# EAGLE library part ANALOG_DEVICES_INC_AD8138SRMZ-EP-R7 (library Upverter Library)
ADC Driver IC Data Acquisition 8-MSOP
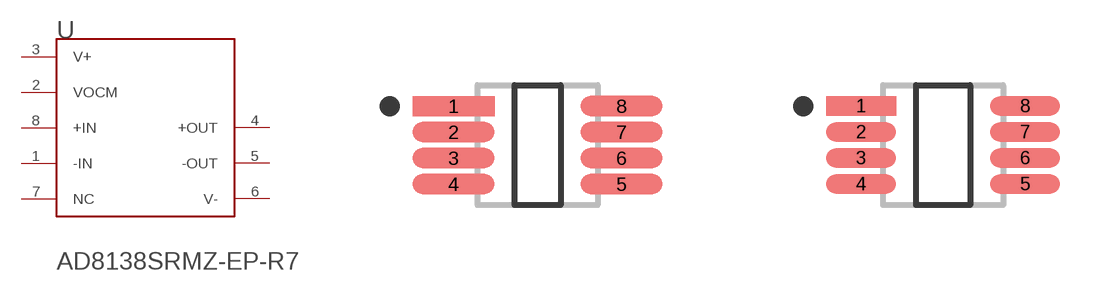
[diagram p0: symbol with the pads of ANALOG_DEVICES_INC_AD8138SRMZ-EP-R7_0; footprints ANALOG_DEVICES_INC_AD8138SRMZ-EP-R7_0, ANALOG_DEVICES_INC_AD8138SRMZ-EP-R7_1]

Designator prefix U

## ANALOG_DEVICES_INC_AD8138SRMZ-EP-R7ANALOG_DEVICES_INC_AD8138SRMZ-EP-R7_0_0 (MF: Analog Devices Inc; MPN: AD8138SRMZ-EP-R7; automotive: No; bandwidth: 250MHz; centroid_not_specified: No; datasheet: https://www.analog.com/media/en/technical-documentation/data-sheets/AD8138.pdf; device_class_L1: Integrated Circuits (ICs); device_class_L2: Linear ICs; device_class_L3: Amplifiers - Op Amps; digikey_description: IC ADC DRIVER 8MSOP; digikey_part_number: AD8138SRMZ-EP-R7CT-ND; footprint_parameters_0: {"fp_type":"TSSOP2","params":{"N":{"nom":8,"long name":"Number of leads","min":null,"max":null,"short name":"N","type":"count"},"A":{"nom":false,"long name":"Height","min":false,"max":1100000,"short name":"A","type":"measurement"},"A1":{"nom":100000,"long name":"Package clearance","min":50000,"max":150000,"short name":"A1","type":"measurement"},"A2":{"nom":850000,"long name":"Package height","min":750000,"max":950000,"short name":"A2","type":"measurement"},"D":{"nom":3000000,"long name":"Package length","min":2800000,"max":3200000,"short name":"D","type":"measurement"},"E":{"nom":4900000,"long name":"Width /w leads","min":4650000,"max":5150000,"short name":"E","type":"measurement"},"E1":{"nom":3000000,"long name":"Package width","min":2800000,"max":3200000,"short name":"E1","type":"measurement"},"B":{"nom":325000,"long name":"Lead width","min":250000,"max":400000,"short name":"B","type":"measurement"},"C":{"nom":160000,"long name":"Lead thickness","min":90000,"max":230000,"short name":"C","type":"measurement"},"L":{"nom":550000,"long name":"Lead foot length","min":400000,"max":800000,"short name":"L","type":"measurement"},"e":{"nom":650000,"long name":"Lead pitch","min":null,"max":null,"short name":"e","type":"measurement"},"PHI":{"nom":3000000,"long name":"Lead angle","min":0,"max":6000000,"short name":"PHI","type":"measurement"},"HT":{"default":"No","long name":"Thermal pad","type":"multichoiceparent","short name":"HT","children":[]},"offset x":{"nom":0,"long name":"X Center offset","min":null,"max":null,"short name":"offset x","type":"measurement"},"offset y":{"nom":0,"long name":"Y Center offset","min":null,"max":null,"short name":"offset y","type":"measurement"},"LS":{"default":"Rounded rectangle","long name":"Land shape","type":"multichoice","short name":"LS"},"LS1":{"default":"Rectangle","long name":"Land shape (Pin 1)","type":"multichoice","short name":"LS1"},"solder toe":{"nom":550000,"long name":"Solder fillet (toe)","min":null,"max":null,"short name":"solder toe","type":"fixedmeasurement"},"solder heel":{"nom":450000,"long name":"Solder fillet (heel)","min":null,"max":null,"short name":"solder heel","type":"fixedmeasurement"},"solder side":{"nom":50000,"long name":"Solder fillet (side)","min":null,"max":null,"short name":"solder side","type":"fixedmeasurement"},"courtyard":{"nom":500000,"long name":"Courtyard","min":null,"max":null,"short name":"courtyard","type":"fixedmeasurement"},"SF":{"default":"A (> 0.625mm pitch)","long name":"Packing level","type":"multichoiceparent","short name":"SF","help":"http://support.upverter.com/customer/portal/articles/978783-what-is-a-footprint-packing-level","children":["solder toe","solder heel","solder side","courtyard"]}}}; footprint_parameters_1: {"fp_type":"TSSOP2","params":{"N":{"nom":8,"long name":"Number of leads","min":null,"max":null,"short name":"N","type":"count"},"A":{"nom":false,"long name":"Height","min":false,"max":1100000,"short name":"A","type":"measurement"},"A1":{"nom":100000,"long name":"Package clearance","min":50000,"max":150000,"short name":"A1","type":"measurement"},"A2":{"nom":850000,"long name":"Package height","min":750000,"max":950000,"short name":"A2","type":"measurement"},"D":{"nom":3000000,"long name":"Package length","min":2800000,"max":3200000,"short name":"D","type":"measurement"},"E":{"nom":4900000,"long name":"Width /w leads","min":4650000,"max":5150000,"short name":"E","type":"measurement"},"E1":{"nom":3000000,"long name":"Package width","min":2800000,"max":3200000,"short name":"E1","type":"measurement"},"B":{"nom":325000,"long name":"Lead width","min":250000,"max":400000,"short name":"B","type":"measurement"},"C":{"nom":160000,"long name":"Lead thickness","min":90000,"max":230000,"short name":"C","type":"measurement"},"L":{"nom":550000,"long name":"Lead foot length","min":400000,"max":800000,"short name":"L","type":"measurement"},"e":{"nom":650000,"long name":"Lead pitch","min":null,"max":null,"short name":"e","type":"measurement"},"PHI":{"nom":3000000,"long name":"Lead angle","min":0,"max":6000000,"short name":"PHI","type":"measurement"},"HT":{"default":"No","long name":"Thermal pad","type":"multichoiceparent","short name":"HT","children":[]},"offset x":{"nom":0,"long name":"X Center offset","min":null,"max":null,"short name":"offset x","type":"measurement"},"offset y":{"nom":0,"long name":"Y Center offset","min":null,"max":null,"short name":"offset y","type":"measurement"},"LS":{"default":"Rounded rectangle","long name":"Land shape","type":"multichoice","short name":"LS"},"LS1":{"default":"Rectangle","long name":"Land shape (Pin 1)","type":"multichoice","short name":"LS1"},"solder toe":{"nom":350000,"long name":"Solder fillet (toe)","min":null,"max":null,"short name":"solder toe","type":"fixedmeasurement"},"solder heel":{"nom":350000,"long name":"Solder fillet (heel)","min":null,"max":null,"short name":"solder heel","type":"fixedmeasurement"},"solder side":{"nom":30000,"long name":"Solder fillet (side)","min":null,"max":null,"short name":"solder side","type":"fixedmeasurement"},"courtyard":{"nom":250000,"long name":"Courtyard","min":null,"max":null,"short name":"courtyard","type":"fixedmeasurement"},"SF":{"default":"B (> 0.625mm pitch)","long name":"Packing level","type":"multichoiceparent","short name":"SF","help":"http://support.upverter.com/customer/portal/articles/978783-what-is-a-footprint-packing-level","children":["solder toe","solder heel","solder side","courtyard"]}}}; footprint_parameters_2: {"fp_type":"TSSOP2","params":{"N":{"nom":8,"long name":"Number of leads","min":null,"max":null,"short name":"N","type":"count"},"A":{"nom":false,"long name":"Height","min":false,"max":1100000,"short name":"A","type":"measurement"},"A1":{"nom":100000,"long name":"Package clearance","min":50000,"max":150000,"short name":"A1","type":"measurement"},"A2":{"nom":850000,"long name":"Package height","min":750000,"max":950000,"short name":"A2","type":"measurement"},"D":{"nom":3000000,"long name":"Package length","min":2800000,"max":3200000,"short name":"D","type":"measurement"},"E":{"nom":4900000,"long name":"Width /w leads","min":4650000,"max":5150000,"short name":"E","type":"measurement"},"E1":{"nom":3000000,"long name":"Package width","min":2800000,"max":3200000,"short name":"E1","type":"measurement"},"B":{"nom":325000,"long name":"Lead width","min":250000,"max":400000,"short name":"B","type":"measurement"},"C":{"nom":160000,"long name":"Lead thickness","min":90000,"max":230000,"short name":"C","type":"measurement"},"L":{"nom":550000,"long name":"Lead foot length","min":400000,"max":800000,"short name":"L","type":"measurement"},"e":{"nom":650000,"long name":"Lead pitch","min":null,"max":null,"short name":"e","type":"measurement"},"PHI":{"nom":3000000,"long name":"Lead angle","min":0,"max":6000000,"short name":"PHI","type":"measurement"},"HT":{"default":"No","long name":"Thermal pad","type":"multichoiceparent","short name":"HT","children":[]},"offset x":{"nom":0,"long name":"X Center offset","min":null,"max":null,"short name":"offset x","type":"measurement"},"offset y":{"nom":0,"long name":"Y Center offset","min":null,"max":null,"short name":"offset y","type":"measurement"},"LS":{"default":"Rounded rectangle","long name":"Land shape","type":"multichoice","short name":"LS"},"LS1":{"default":"Rectangle","long name":"Land shape (Pin 1)","type":"multichoice","short name":"LS1"},"solder toe":{"nom":150000,"long name":"Solder fillet (toe)","min":null,"max":null,"short name":"solder toe","type":"fixedmeasurement"},"solder heel":{"nom":250000,"long name":"Solder fillet (heel)","min":null,"max":null,"short name":"solder heel","type":"fixedmeasurement"},"solder side":{"nom":10000,"long name":"Solder fillet (side)","min":null,"max":null,"short name":"solder side","type":"fixedmeasurement"},"courtyard":{"nom":100000,"long name":"Courtyard","min":null,"max":null,"short name":"courtyard","type":"fixedmeasurement"},"SF":{"default":"C (> 0.625mm pitch)","long name":"Packing level","type":"multichoiceparent","short name":"SF","help":"http://support.upverter.com/customer/portal/articles/978783-what-is-a-footprint-packing-level","children":["solder toe","solder heel","solder side","courtyard"]}}}; footprint_url: https://www.analog.com/media/en/package-pcb-resources/package/pkg_pdf/msoprm/rm_8.pdf; footprint_variant_name_0: IPC_A; footprint_variant_name_1: IPC_B; footprint_variant_name_2: IPC_C; height: 1.1mm; input_bias_current: 3.5uA; input_offset_voltage: 1mV; lead_free: Yes; max_junction_temp: +150°C; max_supply_voltage: 11V; mfg_package_ident: RM-8; mfg_package_ident_component_id: b5f9d8ac265ceba8; mfg_package_ident_date: 10/2009; mfg_package_ident_rev: B; min_supply_voltage: 2.7V; mouser_description: Differential Amplifiers IC Lo-Distortion ADC; mouser_part_number: 584-AD8138SRMZ-EP-R7; nominal_supply_current: 20mA; number_of_channels: 1; output_current_per_channel: 95mA; package: MSOP8; prefix: U; response_time: 16ns; rohs: Yes; standoff_height: 0.05mm; temperature_range_high: +85°C; temperature_range_low: -40°C; verification_version: 0.0.0.3)  [ANALOG_DEVICES_INC_AD8138SRMZ-EP-R7_0]
1  -IN  hiz
2  VOCM  pwr
3  V+  pwr
4  +OUT  pas
5  -OUT  pas
6  V-  pwr
7  NC  pas
8  +IN  hiz

## ANALOG_DEVICES_INC_AD8138SRMZ-EP-R7ANALOG_DEVICES_INC_AD8138SRMZ-EP-R7_0_1 (MF: Analog Devices Inc; MPN: AD8138SRMZ-EP-R7; automotive: No; bandwidth: 250MHz; centroid_not_specified: No; datasheet: https://www.analog.com/media/en/technical-documentation/data-sheets/AD8138.pdf; device_class_L1: Integrated Circuits (ICs); device_class_L2: Linear ICs; device_class_L3: Amplifiers - Op Amps; digikey_description: IC ADC DRIVER 8MSOP; digikey_part_number: AD8138SRMZ-EP-R7CT-ND; footprint_parameters_0: {"fp_type":"TSSOP2","params":{"N":{"nom":8,"long name":"Number of leads","min":null,"max":null,"short name":"N","type":"count"},"A":{"nom":false,"long name":"Height","min":false,"max":1100000,"short name":"A","type":"measurement"},"A1":{"nom":100000,"long name":"Package clearance","min":50000,"max":150000,"short name":"A1","type":"measurement"},"A2":{"nom":850000,"long name":"Package height","min":750000,"max":950000,"short name":"A2","type":"measurement"},"D":{"nom":3000000,"long name":"Package length","min":2800000,"max":3200000,"short name":"D","type":"measurement"},"E":{"nom":4900000,"long name":"Width /w leads","min":4650000,"max":5150000,"short name":"E","type":"measurement"},"E1":{"nom":3000000,"long name":"Package width","min":2800000,"max":3200000,"short name":"E1","type":"measurement"},"B":{"nom":325000,"long name":"Lead width","min":250000,"max":400000,"short name":"B","type":"measurement"},"C":{"nom":160000,"long name":"Lead thickness","min":90000,"max":230000,"short name":"C","type":"measurement"},"L":{"nom":550000,"long name":"Lead foot length","min":400000,"max":800000,"short name":"L","type":"measurement"},"e":{"nom":650000,"long name":"Lead pitch","min":null,"max":null,"short name":"e","type":"measurement"},"PHI":{"nom":3000000,"long name":"Lead angle","min":0,"max":6000000,"short name":"PHI","type":"measurement"},"HT":{"default":"No","long name":"Thermal pad","type":"multichoiceparent","short name":"HT","children":[]},"offset x":{"nom":0,"long name":"X Center offset","min":null,"max":null,"short name":"offset x","type":"measurement"},"offset y":{"nom":0,"long name":"Y Center offset","min":null,"max":null,"short name":"offset y","type":"measurement"},"LS":{"default":"Rounded rectangle","long name":"Land shape","type":"multichoice","short name":"LS"},"LS1":{"default":"Rectangle","long name":"Land shape (Pin 1)","type":"multichoice","short name":"LS1"},"solder toe":{"nom":550000,"long name":"Solder fillet (toe)","min":null,"max":null,"short name":"solder toe","type":"fixedmeasurement"},"solder heel":{"nom":450000,"long name":"Solder fillet (heel)","min":null,"max":null,"short name":"solder heel","type":"fixedmeasurement"},"solder side":{"nom":50000,"long name":"Solder fillet (side)","min":null,"max":null,"short name":"solder side","type":"fixedmeasurement"},"courtyard":{"nom":500000,"long name":"Courtyard","min":null,"max":null,"short name":"courtyard","type":"fixedmeasurement"},"SF":{"default":"A (> 0.625mm pitch)","long name":"Packing level","type":"multichoiceparent","short name":"SF","help":"http://support.upverter.com/customer/portal/articles/978783-what-is-a-footprint-packing-level","children":["solder toe","solder heel","solder side","courtyard"]}}}; footprint_parameters_1: {"fp_type":"TSSOP2","params":{"N":{"nom":8,"long name":"Number of leads","min":null,"max":null,"short name":"N","type":"count"},"A":{"nom":false,"long name":"Height","min":false,"max":1100000,"short name":"A","type":"measurement"},"A1":{"nom":100000,"long name":"Package clearance","min":50000,"max":150000,"short name":"A1","type":"measurement"},"A2":{"nom":850000,"long name":"Package height","min":750000,"max":950000,"short name":"A2","type":"measurement"},"D":{"nom":3000000,"long name":"Package length","min":2800000,"max":3200000,"short name":"D","type":"measurement"},"E":{"nom":4900000,"long name":"Width /w leads","min":4650000,"max":5150000,"short name":"E","type":"measurement"},"E1":{"nom":3000000,"long name":"Package width","min":2800000,"max":3200000,"short name":"E1","type":"measurement"},"B":{"nom":325000,"long name":"Lead width","min":250000,"max":400000,"short name":"B","type":"measurement"},"C":{"nom":160000,"long name":"Lead thickness","min":90000,"max":230000,"short name":"C","type":"measurement"},"L":{"nom":550000,"long name":"Lead foot length","min":400000,"max":800000,"short name":"L","type":"measurement"},"e":{"nom":650000,"long name":"Lead pitch","min":null,"max":null,"short name":"e","type":"measurement"},"PHI":{"nom":3000000,"long name":"Lead angle","min":0,"max":6000000,"short name":"PHI","type":"measurement"},"HT":{"default":"No","long name":"Thermal pad","type":"multichoiceparent","short name":"HT","children":[]},"offset x":{"nom":0,"long name":"X Center offset","min":null,"max":null,"short name":"offset x","type":"measurement"},"offset y":{"nom":0,"long name":"Y Center offset","min":null,"max":null,"short name":"offset y","type":"measurement"},"LS":{"default":"Rounded rectangle","long name":"Land shape","type":"multichoice","short name":"LS"},"LS1":{"default":"Rectangle","long name":"Land shape (Pin 1)","type":"multichoice","short name":"LS1"},"solder toe":{"nom":350000,"long name":"Solder fillet (toe)","min":null,"max":null,"short name":"solder toe","type":"fixedmeasurement"},"solder heel":{"nom":350000,"long name":"Solder fillet (heel)","min":null,"max":null,"short name":"solder heel","type":"fixedmeasurement"},"solder side":{"nom":30000,"long name":"Solder fillet (side)","min":null,"max":null,"short name":"solder side","type":"fixedmeasurement"},"courtyard":{"nom":250000,"long name":"Courtyard","min":null,"max":null,"short name":"courtyard","type":"fixedmeasurement"},"SF":{"default":"B (> 0.625mm pitch)","long name":"Packing level","type":"multichoiceparent","short name":"SF","help":"http://support.upverter.com/customer/portal/articles/978783-what-is-a-footprint-packing-level","children":["solder toe","solder heel","solder side","courtyard"]}}}; footprint_parameters_2: {"fp_type":"TSSOP2","params":{"N":{"nom":8,"long name":"Number of leads","min":null,"max":null,"short name":"N","type":"count"},"A":{"nom":false,"long name":"Height","min":false,"max":1100000,"short name":"A","type":"measurement"},"A1":{"nom":100000,"long name":"Package clearance","min":50000,"max":150000,"short name":"A1","type":"measurement"},"A2":{"nom":850000,"long name":"Package height","min":750000,"max":950000,"short name":"A2","type":"measurement"},"D":{"nom":3000000,"long name":"Package length","min":2800000,"max":3200000,"short name":"D","type":"measurement"},"E":{"nom":4900000,"long name":"Width /w leads","min":4650000,"max":5150000,"short name":"E","type":"measurement"},"E1":{"nom":3000000,"long name":"Package width","min":2800000,"max":3200000,"short name":"E1","type":"measurement"},"B":{"nom":325000,"long name":"Lead width","min":250000,"max":400000,"short name":"B","type":"measurement"},"C":{"nom":160000,"long name":"Lead thickness","min":90000,"max":230000,"short name":"C","type":"measurement"},"L":{"nom":550000,"long name":"Lead foot length","min":400000,"max":800000,"short name":"L","type":"measurement"},"e":{"nom":650000,"long name":"Lead pitch","min":null,"max":null,"short name":"e","type":"measurement"},"PHI":{"nom":3000000,"long name":"Lead angle","min":0,"max":6000000,"short name":"PHI","type":"measurement"},"HT":{"default":"No","long name":"Thermal pad","type":"multichoiceparent","short name":"HT","children":[]},"offset x":{"nom":0,"long name":"X Center offset","min":null,"max":null,"short name":"offset x","type":"measurement"},"offset y":{"nom":0,"long name":"Y Center offset","min":null,"max":null,"short name":"offset y","type":"measurement"},"LS":{"default":"Rounded rectangle","long name":"Land shape","type":"multichoice","short name":"LS"},"LS1":{"default":"Rectangle","long name":"Land shape (Pin 1)","type":"multichoice","short name":"LS1"},"solder toe":{"nom":150000,"long name":"Solder fillet (toe)","min":null,"max":null,"short name":"solder toe","type":"fixedmeasurement"},"solder heel":{"nom":250000,"long name":"Solder fillet (heel)","min":null,"max":null,"short name":"solder heel","type":"fixedmeasurement"},"solder side":{"nom":10000,"long name":"Solder fillet (side)","min":null,"max":null,"short name":"solder side","type":"fixedmeasurement"},"courtyard":{"nom":100000,"long name":"Courtyard","min":null,"max":null,"short name":"courtyard","type":"fixedmeasurement"},"SF":{"default":"C (> 0.625mm pitch)","long name":"Packing level","type":"multichoiceparent","short name":"SF","help":"http://support.upverter.com/customer/portal/articles/978783-what-is-a-footprint-packing-level","children":["solder toe","solder heel","solder side","courtyard"]}}}; footprint_url: https://www.analog.com/media/en/package-pcb-resources/package/pkg_pdf/msoprm/rm_8.pdf; footprint_variant_name_0: IPC_A; footprint_variant_name_1: IPC_B; footprint_variant_name_2: IPC_C; height: 1.1mm; input_bias_current: 3.5uA; input_offset_voltage: 1mV; lead_free: Yes; max_junction_temp: +150°C; max_supply_voltage: 11V; mfg_package_ident: RM-8; mfg_package_ident_component_id: b5f9d8ac265ceba8; mfg_package_ident_date: 10/2009; mfg_package_ident_rev: B; min_supply_voltage: 2.7V; mouser_description: Differential Amplifiers IC Lo-Distortion ADC; mouser_part_number: 584-AD8138SRMZ-EP-R7; nominal_supply_current: 20mA; number_of_channels: 1; output_current_per_channel: 95mA; package: MSOP8; prefix: U; response_time: 16ns; rohs: Yes; standoff_height: 0.05mm; temperature_range_high: +85°C; temperature_range_low: -40°C; verification_version: 0.0.0.3)  [ANALOG_DEVICES_INC_AD8138SRMZ-EP-R7_1]
Pads as for ANALOG_DEVICES_INC_AD8138SRMZ-EP-R7_0

## ANALOG_DEVICES_INC_AD8138SRMZ-EP-R7ANALOG_DEVICES_INC_AD8138SRMZ-EP-R7_0_2 (MF: Analog Devices Inc; MPN: AD8138SRMZ-EP-R7; automotive: No; bandwidth: 250MHz; centroid_not_specified: No; datasheet: https://www.analog.com/media/en/technical-documentation/data-sheets/AD8138.pdf; device_class_L1: Integrated Circuits (ICs); device_class_L2: Linear ICs; device_class_L3: Amplifiers - Op Amps; digikey_description: IC ADC DRIVER 8MSOP; digikey_part_number: AD8138SRMZ-EP-R7CT-ND; footprint_parameters_0: {"fp_type":"TSSOP2","params":{"N":{"nom":8,"long name":"Number of leads","min":null,"max":null,"short name":"N","type":"count"},"A":{"nom":false,"long name":"Height","min":false,"max":1100000,"short name":"A","type":"measurement"},"A1":{"nom":100000,"long name":"Package clearance","min":50000,"max":150000,"short name":"A1","type":"measurement"},"A2":{"nom":850000,"long name":"Package height","min":750000,"max":950000,"short name":"A2","type":"measurement"},"D":{"nom":3000000,"long name":"Package length","min":2800000,"max":3200000,"short name":"D","type":"measurement"},"E":{"nom":4900000,"long name":"Width /w leads","min":4650000,"max":5150000,"short name":"E","type":"measurement"},"E1":{"nom":3000000,"long name":"Package width","min":2800000,"max":3200000,"short name":"E1","type":"measurement"},"B":{"nom":325000,"long name":"Lead width","min":250000,"max":400000,"short name":"B","type":"measurement"},"C":{"nom":160000,"long name":"Lead thickness","min":90000,"max":230000,"short name":"C","type":"measurement"},"L":{"nom":550000,"long name":"Lead foot length","min":400000,"max":800000,"short name":"L","type":"measurement"},"e":{"nom":650000,"long name":"Lead pitch","min":null,"max":null,"short name":"e","type":"measurement"},"PHI":{"nom":3000000,"long name":"Lead angle","min":0,"max":6000000,"short name":"PHI","type":"measurement"},"HT":{"default":"No","long name":"Thermal pad","type":"multichoiceparent","short name":"HT","children":[]},"offset x":{"nom":0,"long name":"X Center offset","min":null,"max":null,"short name":"offset x","type":"measurement"},"offset y":{"nom":0,"long name":"Y Center offset","min":null,"max":null,"short name":"offset y","type":"measurement"},"LS":{"default":"Rounded rectangle","long name":"Land shape","type":"multichoice","short name":"LS"},"LS1":{"default":"Rectangle","long name":"Land shape (Pin 1)","type":"multichoice","short name":"LS1"},"solder toe":{"nom":550000,"long name":"Solder fillet (toe)","min":null,"max":null,"short name":"solder toe","type":"fixedmeasurement"},"solder heel":{"nom":450000,"long name":"Solder fillet (heel)","min":null,"max":null,"short name":"solder heel","type":"fixedmeasurement"},"solder side":{"nom":50000,"long name":"Solder fillet (side)","min":null,"max":null,"short name":"solder side","type":"fixedmeasurement"},"courtyard":{"nom":500000,"long name":"Courtyard","min":null,"max":null,"short name":"courtyard","type":"fixedmeasurement"},"SF":{"default":"A (> 0.625mm pitch)","long name":"Packing level","type":"multichoiceparent","short name":"SF","help":"http://support.upverter.com/customer/portal/articles/978783-what-is-a-footprint-packing-level","children":["solder toe","solder heel","solder side","courtyard"]}}}; footprint_parameters_1: {"fp_type":"TSSOP2","params":{"N":{"nom":8,"long name":"Number of leads","min":null,"max":null,"short name":"N","type":"count"},"A":{"nom":false,"long name":"Height","min":false,"max":1100000,"short name":"A","type":"measurement"},"A1":{"nom":100000,"long name":"Package clearance","min":50000,"max":150000,"short name":"A1","type":"measurement"},"A2":{"nom":850000,"long name":"Package height","min":750000,"max":950000,"short name":"A2","type":"measurement"},"D":{"nom":3000000,"long name":"Package length","min":2800000,"max":3200000,"short name":"D","type":"measurement"},"E":{"nom":4900000,"long name":"Width /w leads","min":4650000,"max":5150000,"short name":"E","type":"measurement"},"E1":{"nom":3000000,"long name":"Package width","min":2800000,"max":3200000,"short name":"E1","type":"measurement"},"B":{"nom":325000,"long name":"Lead width","min":250000,"max":400000,"short name":"B","type":"measurement"},"C":{"nom":160000,"long name":"Lead thickness","min":90000,"max":230000,"short name":"C","type":"measurement"},"L":{"nom":550000,"long name":"Lead foot length","min":400000,"max":800000,"short name":"L","type":"measurement"},"e":{"nom":650000,"long name":"Lead pitch","min":null,"max":null,"short name":"e","type":"measurement"},"PHI":{"nom":3000000,"long name":"Lead angle","min":0,"max":6000000,"short name":"PHI","type":"measurement"},"HT":{"default":"No","long name":"Thermal pad","type":"multichoiceparent","short name":"HT","children":[]},"offset x":{"nom":0,"long name":"X Center offset","min":null,"max":null,"short name":"offset x","type":"measurement"},"offset y":{"nom":0,"long name":"Y Center offset","min":null,"max":null,"short name":"offset y","type":"measurement"},"LS":{"default":"Rounded rectangle","long name":"Land shape","type":"multichoice","short name":"LS"},"LS1":{"default":"Rectangle","long name":"Land shape (Pin 1)","type":"multichoice","short name":"LS1"},"solder toe":{"nom":350000,"long name":"Solder fillet (toe)","min":null,"max":null,"short name":"solder toe","type":"fixedmeasurement"},"solder heel":{"nom":350000,"long name":"Solder fillet (heel)","min":null,"max":null,"short name":"solder heel","type":"fixedmeasurement"},"solder side":{"nom":30000,"long name":"Solder fillet (side)","min":null,"max":null,"short name":"solder side","type":"fixedmeasurement"},"courtyard":{"nom":250000,"long name":"Courtyard","min":null,"max":null,"short name":"courtyard","type":"fixedmeasurement"},"SF":{"default":"B (> 0.625mm pitch)","long name":"Packing level","type":"multichoiceparent","short name":"SF","help":"http://support.upverter.com/customer/portal/articles/978783-what-is-a-footprint-packing-level","children":["solder toe","solder heel","solder side","courtyard"]}}}; footprint_parameters_2: {"fp_type":"TSSOP2","params":{"N":{"nom":8,"long name":"Number of leads","min":null,"max":null,"short name":"N","type":"count"},"A":{"nom":false,"long name":"Height","min":false,"max":1100000,"short name":"A","type":"measurement"},"A1":{"nom":100000,"long name":"Package clearance","min":50000,"max":150000,"short name":"A1","type":"measurement"},"A2":{"nom":850000,"long name":"Package height","min":750000,"max":950000,"short name":"A2","type":"measurement"},"D":{"nom":3000000,"long name":"Package length","min":2800000,"max":3200000,"short name":"D","type":"measurement"},"E":{"nom":4900000,"long name":"Width /w leads","min":4650000,"max":5150000,"short name":"E","type":"measurement"},"E1":{"nom":3000000,"long name":"Package width","min":2800000,"max":3200000,"short name":"E1","type":"measurement"},"B":{"nom":325000,"long name":"Lead width","min":250000,"max":400000,"short name":"B","type":"measurement"},"C":{"nom":160000,"long name":"Lead thickness","min":90000,"max":230000,"short name":"C","type":"measurement"},"L":{"nom":550000,"long name":"Lead foot length","min":400000,"max":800000,"short name":"L","type":"measurement"},"e":{"nom":650000,"long name":"Lead pitch","min":null,"max":null,"short name":"e","type":"measurement"},"PHI":{"nom":3000000,"long name":"Lead angle","min":0,"max":6000000,"short name":"PHI","type":"measurement"},"HT":{"default":"No","long name":"Thermal pad","type":"multichoiceparent","short name":"HT","children":[]},"offset x":{"nom":0,"long name":"X Center offset","min":null,"max":null,"short name":"offset x","type":"measurement"},"offset y":{"nom":0,"long name":"Y Center offset","min":null,"max":null,"short name":"offset y","type":"measurement"},"LS":{"default":"Rounded rectangle","long name":"Land shape","type":"multichoice","short name":"LS"},"LS1":{"default":"Rectangle","long name":"Land shape (Pin 1)","type":"multichoice","short name":"LS1"},"solder toe":{"nom":150000,"long name":"Solder fillet (toe)","min":null,"max":null,"short name":"solder toe","type":"fixedmeasurement"},"solder heel":{"nom":250000,"long name":"Solder fillet (heel)","min":null,"max":null,"short name":"solder heel","type":"fixedmeasurement"},"solder side":{"nom":10000,"long name":"Solder fillet (side)","min":null,"max":null,"short name":"solder side","type":"fixedmeasurement"},"courtyard":{"nom":100000,"long name":"Courtyard","min":null,"max":null,"short name":"courtyard","type":"fixedmeasurement"},"SF":{"default":"C (> 0.625mm pitch)","long name":"Packing level","type":"multichoiceparent","short name":"SF","help":"http://support.upverter.com/customer/portal/articles/978783-what-is-a-footprint-packing-level","children":["solder toe","solder heel","solder side","courtyard"]}}}; footprint_url: https://www.analog.com/media/en/package-pcb-resources/package/pkg_pdf/msoprm/rm_8.pdf; footprint_variant_name_0: IPC_A; footprint_variant_name_1: IPC_B; footprint_variant_name_2: IPC_C; height: 1.1mm; input_bias_current: 3.5uA; input_offset_voltage: 1mV; lead_free: Yes; max_junction_temp: +150°C; max_supply_voltage: 11V; mfg_package_ident: RM-8; mfg_package_ident_component_id: b5f9d8ac265ceba8; mfg_package_ident_date: 10/2009; mfg_package_ident_rev: B; min_supply_voltage: 2.7V; mouser_description: Differential Amplifiers IC Lo-Distortion ADC; mouser_part_number: 584-AD8138SRMZ-EP-R7; nominal_supply_current: 20mA; number_of_channels: 1; output_current_per_channel: 95mA; package: MSOP8; prefix: U; response_time: 16ns; rohs: Yes; standoff_height: 0.05mm; temperature_range_high: +85°C; temperature_range_low: -40°C; verification_version: 0.0.0.3)  [ANALOG_DEVICES_INC_AD8138SRMZ-EP-R7_2]
Pads as for ANALOG_DEVICES_INC_AD8138SRMZ-EP-R7_0

## Footprint ANALOG_DEVICES_INC_AD8138SRMZ-EP-R7_0 (pad centres in mm)
ADC Driver IC Data Acquisition 8-MSOP
smd 2.054 x 0.5: 1 -2.1,0.975; 2 -2.1,0.325; 3 -2.1,-0.325; 4 -2.1,-0.975; 5 2.1,-0.975; 6 2.1,-0.325; 7 2.1,0.325; 8 2.1,0.975

## Footprint ANALOG_DEVICES_INC_AD8138SRMZ-EP-R7_1 (pad centres in mm)
ADC Driver IC Data Acquisition 8-MSOP
smd 1.754 x 0.476: 1 -2.05,0.975; 2 -2.05,0.325; 3 -2.05,-0.325; 4 -2.05,-0.975; 5 2.05,-0.975; 6 2.05,-0.325; 7 2.05,0.325; 8 2.05,0.975

## Footprint ANALOG_DEVICES_INC_AD8138SRMZ-EP-R7_2 (pad centres in mm)
ADC Driver IC Data Acquisition 8-MSOP
smd 1.454 x 0.436: 1 -2,0.975; 2 -2,0.325; 3 -2,-0.325; 4 -2,-0.975; 5 2,-0.975; 6 2,-0.325; 7 2,0.325; 8 2,0.975